# EAGLE library part OSD32MP157C-512M-BAA (library Octavo-Systems OSD3552)
Octavo Systems LLC OSD32MP15x Family SiP: 18mm x 18mm, 1mm pitch 302 pin BGA contains STM32MP157C, 512MB DDR3, STPMIC1A, 4kB EEPROM, MEMS oscillators (24MHz and 32kHz) and passives. Commerical Temperature (case): 0C to 85C.
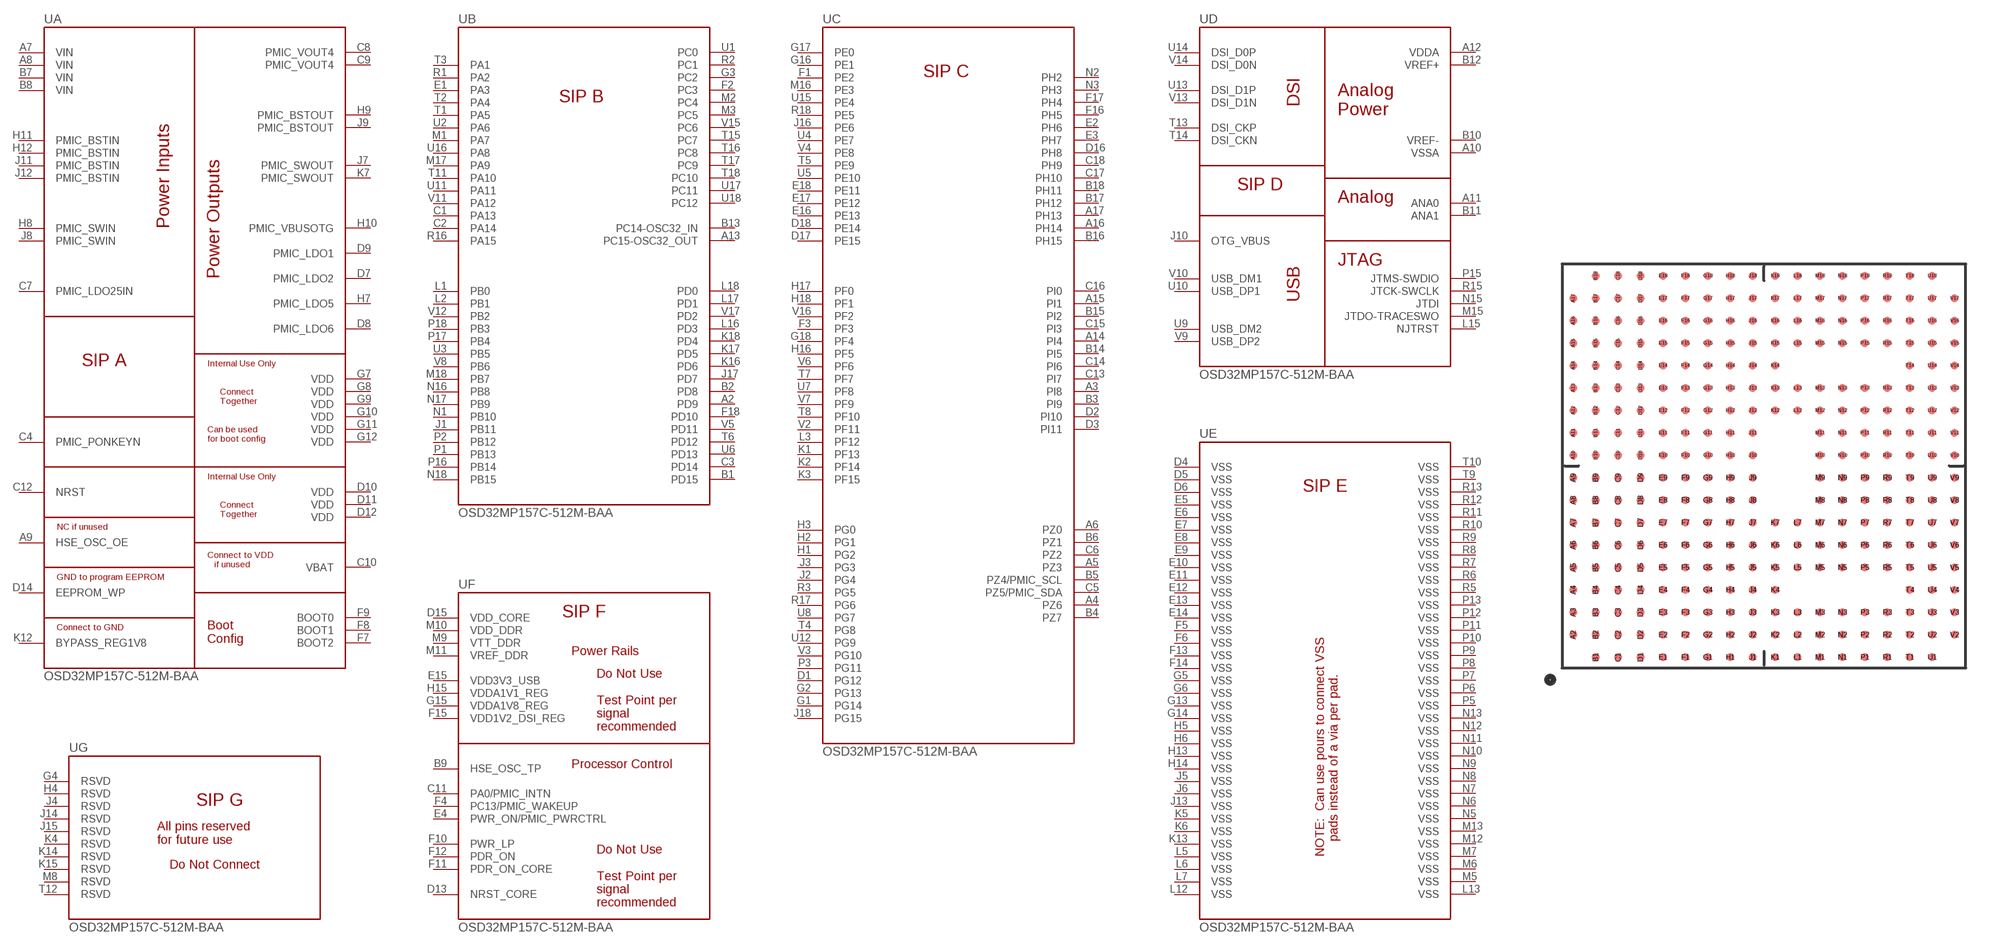
[diagram p6: symbol with the pads of OSD32MP15X-BGA-324; footprint OSD32MP15X-BGA-324]

Designator prefix U; gates A=OSD32MP15X-LOGICAL-A B=OSD32MP15X-LOGICAL-B D=OSD32MP15X-LOGICAL-D C=OSD32MP15X-LOGICAL-C E=OSD32MP15X-LOGICAL-E F=OSD32MP15X-LOGICAL-F G=OSD32MP15X-LOGICAL-G

## OSD32MP157C-512M-BAA  [OSD32MP15X-BGA-324]
A2  B:PD9
A3  C:PI8
A4  C:PZ6
A5  C:PZ3
A6  C:PZ0
A7  A:VIN
A8  A:VIN
A9  A:HSE_OSC_OE
A10  D:VSSA
A11  D:ANA0
A12  D:VDDA
A13  B:PC15-OSC32_OUT
A14  C:PI4
A15  C:PI1
A16  C:PH14
A17  C:PH13
B1  B:PD15
B2  B:PD8
B3  C:PI9
B4  C:PZ7
B5  C:PZ4/PMIC_SCL
B6  C:PZ1
B7  A:VIN
B8  A:VIN
B9  F:HSE_OSC_TP
B10  D:VREF-
B11  D:ANA1
B12  D:VREF+
B13  B:PC14-OSC32_IN
B14  C:PI5
B15  C:PI2
B16  C:PH15
B17  C:PH12
B18  C:PH11
C1  B:PA13
C2  B:PA14
C3  B:PD14
C4  A:PMIC_PONKEYN
C5  C:PZ5/PMIC_SDA
C6  C:PZ2
C7  A:PMIC_LDO25IN
C8  A:PMIC_VOUT4
C9  A:PMIC_VOUT4
C10  A:VBAT
C11  F:PA0/PMIC_INTN
C12  A:NRST
C13  C:PI7
C14  C:PI6
C15  C:PI3
C16  C:PI0
C17  C:PH10
C18  C:PH9
D1  C:PG12
D2  C:PI10
D3  C:PI11
D4  E:VSS
D5  E:VSS
D6  E:VSS
D7  A:PMIC_LDO2
D8  A:PMIC_LDO6
D9  A:PMIC_LDO1
D10  A:VDD
D11  A:VDD
D12  A:VDD
D13  F:NRST_CORE
D14  A:EEPROM_WP
D15  F:VDD_CORE
D16  C:PH8
D17  C:PE15
D18  C:PE14
E1  B:PA3
E2  C:PH6
E3  C:PH7
E4  F:PWR_ON/PMIC_PWRCTRL
E5  E:VSS
E6  E:VSS
E7  E:VSS
E8  E:VSS
E9  E:VSS
E10  E:VSS
E11  E:VSS
E12  E:VSS
E13  E:VSS
E14  E:VSS
E15  F:VDD3V3_USB
E16  C:PE13
E17  C:PE12
E18  C:PE11
F1  C:PE2
F2  B:PC3
F3  C:PF3
F4  F:PC13/PMIC_WAKEUP
F5  E:VSS
F6  E:VSS
F7  A:BOOT2
F8  A:BOOT1
F9  A:BOOT0
F10  F:PWR_LP
F11  F:PDR_ON_CORE
F12  F:PDR_ON
F13  E:VSS
F14  E:VSS
F15  F:VDD1V2_DSI_REG
F16  C:PH5
F17  C:PH4
F18  B:PD10
G1  C:PG14
G2  C:PG13
G3  B:PC2
G4  G:RSVD
G5  E:VSS
G6  E:VSS
G7  A:VDD
G8  A:VDD
G9  A:VDD
G10  A:VDD
G11  A:VDD
G12  A:VDD
G13  E:VSS
G14  E:VSS
G15  F:VDDA1V8_REG
G16  C:PE1
G17  C:PE0
G18  C:PF4
H1  C:PG2
H2  C:PG1
H3  C:PG0
H4  G:RSVD
H5  E:VSS
H6  E:VSS
H7  A:PMIC_LDO5
H8  A:PMIC_SWIN
H9  A:PMIC_BSTOUT
H10  A:PMIC_VBUSOTG
H11  A:PMIC_BSTIN
H12  A:PMIC_BSTIN
H13  E:VSS
H14  E:VSS
H15  F:VDDA1V1_REG
H16  C:PF5
H17  C:PF0
H18  C:PF1
J1  B:PB11
J2  C:PG4
J3  C:PG3
J4  G:RSVD
J5  E:VSS
J6  E:VSS
J7  A:PMIC_SWOUT
J8  A:PMIC_SWIN
J9  A:PMIC_BSTOUT
J10  D:OTG_VBUS
J11  A:PMIC_BSTIN
J12  A:PMIC_BSTIN
J13  E:VSS
J14  G:RSVD
J15  G:RSVD
J16  C:PE6
J17  B:PD7
J18  C:PG15
K1  C:PF13
K2  C:PF14
K3  C:PF15
K4  G:RSVD
K5  E:VSS
K6  E:VSS
K7  A:PMIC_SWOUT
K12  A:BYPASS_REG1V8
K13  E:VSS
K14  G:RSVD
K15  G:RSVD
K16  B:PD6
K17  B:PD5
K18  B:PD4
L1  B:PB0
L2  B:PB1
L3  C:PF12
L5  E:VSS
L6  E:VSS
L7  E:VSS
L12  E:VSS
L13  E:VSS
L15  D:NJTRST
L16  B:PD3
L17  B:PD1
L18  B:PD0
M1  B:PA7
M2  B:PC4
M3  B:PC5
M5  E:VSS
M6  E:VSS
M7  E:VSS
M8  G:RSVD
M9  F:VTT_DDR
M10  F:VDD_DDR
M11  F:VREF_DDR
M12  E:VSS
M13  E:VSS
M15  D:JTDO-TRACESWO
M16  C:PE3
M17  B:PA9
M18  B:PB7
N1  B:PB10
N2  C:PH2
N3  C:PH3
N5  E:VSS
N6  E:VSS
N7  E:VSS
N8  E:VSS
N9  E:VSS
N10  E:VSS
N11  E:VSS
N12  E:VSS
N13  E:VSS
N15  D:JTDI
N16  B:PB8
N17  B:PB9
N18  B:PB15
P1  B:PB13
P2  B:PB12
P3  C:PG11
P5  E:VSS
P6  E:VSS
P7  E:VSS
P8  E:VSS
P9  E:VSS
P10  E:VSS
P11  E:VSS
P12  E:VSS
P13  E:VSS
P15  D:JTMS-SWDIO
P16  B:PB14
P17  B:PB4
P18  B:PB3
R1  B:PA2
R2  B:PC1
R3  C:PG5
R5  E:VSS
R6  E:VSS
R7  E:VSS
R8  E:VSS
R9  E:VSS
R10  E:VSS
R11  E:VSS
R12  E:VSS
R13  E:VSS
R15  D:JTCK-SWCLK
R16  B:PA15
R17  C:PG6
R18  C:PE5
T1  B:PA5
T2  B:PA4
T3  B:PA1
T4  C:PG8
T5  C:PE9
T6  B:PD12
T7  C:PF7
T8  C:PF10
T9  E:VSS
T10  E:VSS
T11  B:PA10
T12  G:RSVD
T13  D:DSI_CKP
T14  D:DSI_CKN
T15  B:PC7
T16  B:PC8
T17  B:PC9
T18  B:PC10
U1  B:PC0
U2  B:PA6
U3  B:PB5
U4  C:PE7
U5  C:PE10
U6  B:PD13
U7  C:PF8
U8  C:PG7
U9  D:USB_DM2
U10  D:USB_DP1
U11  B:PA11
U12  C:PG9
U13  D:DSI_D1P
U14  D:DSI_D0P
U15  C:PE4
U16  B:PA8
U17  B:PC11
U18  B:PC12
V2  C:PF11
V3  C:PG10
V4  C:PE8
V5  B:PD11
V6  C:PF6
V7  C:PF9
V8  B:PB6
V9  D:USB_DP2
V10  D:USB_DM1
V11  B:PA12
V12  B:PB2
V13  D:DSI_D1N
V14  D:DSI_D0N
V15  B:PC6
V16  C:PF2
V17  B:PD2

## Footprint OSD32MP15X-BGA-324 (pad centres in mm)
smd 0.35 x 0.35: A2 -8.5,-7.525; A3 -8.5,-6.525; A4 -8.5,-5.525; A5 -8.5,-4.525; A6 -8.5,-3.525; A7 -8.5,-2.525; A8 -8.5,-1.525; A9 -8.5,-0.525; A10 -8.5,0.475; A11 -8.5,1.475; A12 -8.5,2.475; A13 -8.5,3.475; A14 -8.5,4.475; A15 -8.5,5.475; A16 -8.5,6.475; A17 -8.5,7.475; B1 -7.5,-8.525; B2 -7.5,-7.525; B3 -7.5,-6.525; B4 -7.5,-5.525; B5 -7.5,-4.525; B6 -7.5,-3.525; B7 -7.5,-2.525; B8 -7.5,-1.525; B9 -7.5,-0.525; B10 -7.5,0.475; B11 -7.5,1.475; B12 -7.5,2.475; B13 -7.5,3.475; B14 -7.5,4.475; B15 -7.5,5.475; B16 -7.5,6.475; B17 -7.5,7.475; B18 -7.5,8.475; C1 -6.5,-8.525; C2 -6.5,-7.525; C3 -6.5,-6.525; C4 -6.5,-5.525; C5 -6.5,-4.525; C6 -6.5,-3.525; C7 -6.5,-2.525; C8 -6.5,-1.525; C9 -6.5,-0.525; C10 -6.5,0.475; C11 -6.5,1.475; C12 -6.5,2.475; C13 -6.5,3.475; C14 -6.5,4.475; C15 -6.5,5.475; C16 -6.5,6.475; C17 -6.5,7.475; C18 -6.5,8.475; D1 -5.5,-8.525; D2 -5.5,-7.525; D3 -5.5,-6.525; D4 -5.5,-5.525; D5 -5.5,-4.525; D6 -5.5,-3.525; D7 -5.5,-2.525; D8 -5.5,-1.525; D9 -5.5,-0.525; D10 -5.5,0.475; D11 -5.5,1.475; D12 -5.5,2.475; D13 -5.5,3.475; D14 -5.5,4.475; D15 -5.5,5.475; D16 -5.5,6.475; D17 -5.5,7.475; D18 -5.5,8.475; E1 -4.5,-8.525; E2 -4.5,-7.525; E3 -4.5,-6.525; E4 -4.5,-5.525; E5 -4.5,-4.525; E6 -4.5,-3.525; E7 -4.5,-2.525; E8 -4.5,-1.525; E9 -4.5,-0.525; E10 -4.5,0.475; E11 -4.5,1.475; E12 -4.5,2.475; E13 -4.5,3.475; E14 -4.5,4.475; E15 -4.5,5.475; E16 -4.5,6.475; E17 -4.5,7.475; E18 -4.5,8.475; F1 -3.5,-8.525; F2 -3.5,-7.525; F3 -3.5,-6.525; F4 -3.5,-5.525; F5 -3.5,-4.525; F6 -3.5,-3.525; F7 -3.5,-2.525; F8 -3.5,-1.525; F9 -3.5,-0.525; F10 -3.5,0.475; F11 -3.5,1.475; F12 -3.5,2.475; F13 -3.5,3.475; F14 -3.5,4.475; F15 -3.5,5.475; F16 -3.5,6.475; F17 -3.5,7.475; F18 -3.5,8.475; G1 -2.5,-8.525; G2 -2.5,-7.525; G3 -2.5,-6.525; G4 -2.5,-5.525; G5 -2.5,-4.525; G6 -2.5,-3.525; G7 -2.5,-2.525; G8 -2.5,-1.525; G9 -2.5,-0.525; G10 -2.5,0.475; G11 -2.5,1.475; G12 -2.5,2.475; G13 -2.5,3.475; G14 -2.5,4.475; G15 -2.5,5.475; G16 -2.5,6.475; G17 -2.5,7.475; G18 -2.5,8.475; H1 -1.5,-8.525; H2 -1.5,-7.525; H3 -1.5,-6.525; H4 -1.5,-5.525; H5 -1.5,-4.525; H6 -1.5,-3.525; H7 -1.5,-2.525; H8 -1.5,-1.525; H9 -1.5,-0.525; H10 -1.5,0.475; H11 -1.5,1.475; H12 -1.5,2.475; H13 -1.5,3.475; H14 -1.5,4.475; H15 -1.5,5.475; H16 -1.5,6.475; H17 -1.5,7.475; H18 -1.5,8.475; J1 -0.5,-8.525; J2 -0.5,-7.525; J3 -0.5,-6.525; J4 -0.5,-5.525; J5 -0.5,-4.525; J6 -0.5,-3.525; J7 -0.5,-2.525; J8 -0.5,-1.525; J9 -0.5,-0.525; J10 -0.5,0.475; J11 -0.5,1.475; J12 -0.5,2.475; J13 -0.5,3.475; J14 -0.5,4.475; J15 -0.5,5.475; J16 -0.5,6.475; J17 -0.5,7.475; J18 -0.5,8.475; K1 0.5,-8.525; K2 0.5,-7.525; K3 0.5,-6.525; K4 0.5,-5.525; K5 0.5,-4.525; K6 0.5,-3.525; K7 0.5,-2.525; K12 0.5,2.475; K13 0.5,3.475; K14 0.5,4.475; K15 0.5,5.475; K16 0.5,6.475; K17 0.5,7.475; K18 0.5,8.475; L1 1.5,-8.525; L2 1.5,-7.525; L3 1.5,-6.525; L5 1.5,-4.525; L6 1.5,-3.525; L7 1.5,-2.525; L12 1.5,2.475; L13 1.5,3.475; L15 1.5,5.475; L16 1.5,6.475; L17 1.5,7.475; L18 1.5,8.475; M1 2.5,-8.525; M2 2.5,-7.525; M3 2.5,-6.525; M5 2.5,-4.525; M6 2.5,-3.525; M7 2.5,-2.525; M8 2.5,-1.525; M9 2.5,-0.525; M10 2.5,0.475; M11 2.5,1.475; M12 2.5,2.475; M13 2.5,3.475; M15 2.5,5.475; M16 2.5,6.475; M17 2.5,7.475; M18 2.5,8.475; N1 3.5,-8.525; N2 3.5,-7.525; N3 3.5,-6.525; N5 3.5,-4.525; N6 3.5,-3.525; N7 3.5,-2.525; N8 3.5,-1.525; N9 3.5,-0.525; N10 3.5,0.475; N11 3.5,1.475; N12 3.5,2.475; N13 3.5,3.475; N15 3.5,5.475; N16 3.5,6.475; N17 3.5,7.475; N18 3.5,8.475; P1 4.5,-8.525; P2 4.5,-7.525; P3 4.5,-6.525; P5 4.5,-4.525; P6 4.5,-3.525; P7 4.5,-2.525; P8 4.5,-1.525; P9 4.5,-0.525; P10 4.5,0.475; P11 4.5,1.475; P12 4.5,2.475; P13 4.5,3.475; P15 4.5,5.475; P16 4.5,6.475; P17 4.5,7.475; P18 4.5,8.475; R1 5.5,-8.525; R2 5.5,-7.525; R3 5.5,-6.525; R5 5.5,-4.525; R6 5.5,-3.525; R7 5.5,-2.525; R8 5.5,-1.525; R9 5.5,-0.525; R10 5.5,0.475; R11 5.5,1.475; R12 5.5,2.475; R13 5.5,3.475; R15 5.5,5.475; R16 5.5,6.475; R17 5.5,7.475; R18 5.5,8.475; T1 6.5,-8.525; T2 6.5,-7.525; T3 6.5,-6.525; T4 6.5,-5.525; T5 6.5,-4.525; T6 6.5,-3.525; T7 6.5,-2.525; T8 6.5,-1.525; T9 6.5,-0.525; T10 6.5,0.475; T11 6.5,1.475; T12 6.5,2.475; T13 6.5,3.475; T14 6.5,4.475; T15 6.5,5.475; T16 6.5,6.475; T17 6.5,7.475; T18 6.5,8.475; U1 7.5,-8.525; U2 7.5,-7.525; U3 7.5,-6.525; U4 7.5,-5.525; U5 7.5,-4.525; U6 7.5,-3.525; U7 7.5,-2.525; U8 7.5,-1.525; U9 7.5,-0.525; U10 7.5,0.475; U11 7.5,1.475; U12 7.5,2.475; U13 7.5,3.475; U14 7.5,4.475; U15 7.5,5.475; U16 7.5,6.475; U17 7.5,7.475; U18 7.5,8.475; V2 8.5,-7.525; V3 8.5,-6.525; V4 8.5,-5.525; V5 8.5,-4.525; V6 8.5,-3.525; V7 8.5,-2.525; V8 8.5,-1.525; V9 8.5,-0.525; V10 8.5,0.475; V11 8.5,1.475; V12 8.5,2.475; V13 8.5,3.475; V14 8.5,4.475; V15 8.5,5.475; V16 8.5,6.475; V17 8.5,7.475